# EAGLE library part IN-17 (library 0-nixies-russian)
IN-17: tiny numeric topview nixie tube
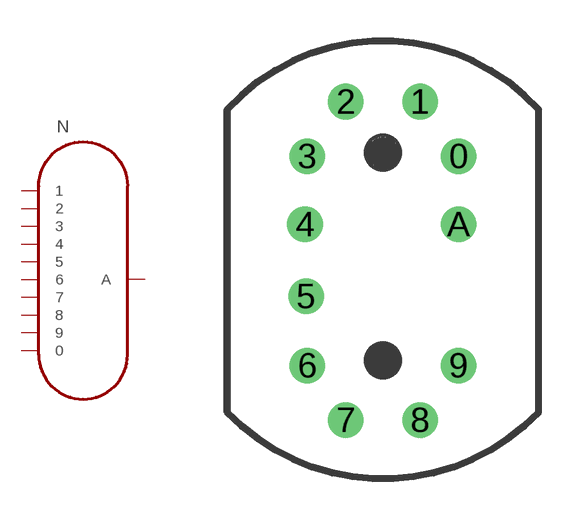
[diagram p0: symbol with the pads of IN-17; footprint IN-17]

Designator prefix N

## IN-17  [IN-17]
0  0
1  1
2  2
3  3
4  4
5  5
6  6
7  7
8  8
9  9
A  A

## Footprint IN-17 (pad centres in mm)
drill 0.8 round: 0 2.777,4; 1 1.365,6; 2 -1.365,6; 3 -2.778,4; 4 -2.858,1.5; 5 -2.818,-1.143; 6 -2.778,-3.683; 7 -1.365,-5.683; 8 1.365,-5.683; 9 2.777,-3.683; A 2.777,1.5